# Altium schematic symbol library zbook-rf-shields-LORA-P1.SchLib: 29 symbols
Pins are listed as number, name and electrical type; pins without a type are passive.

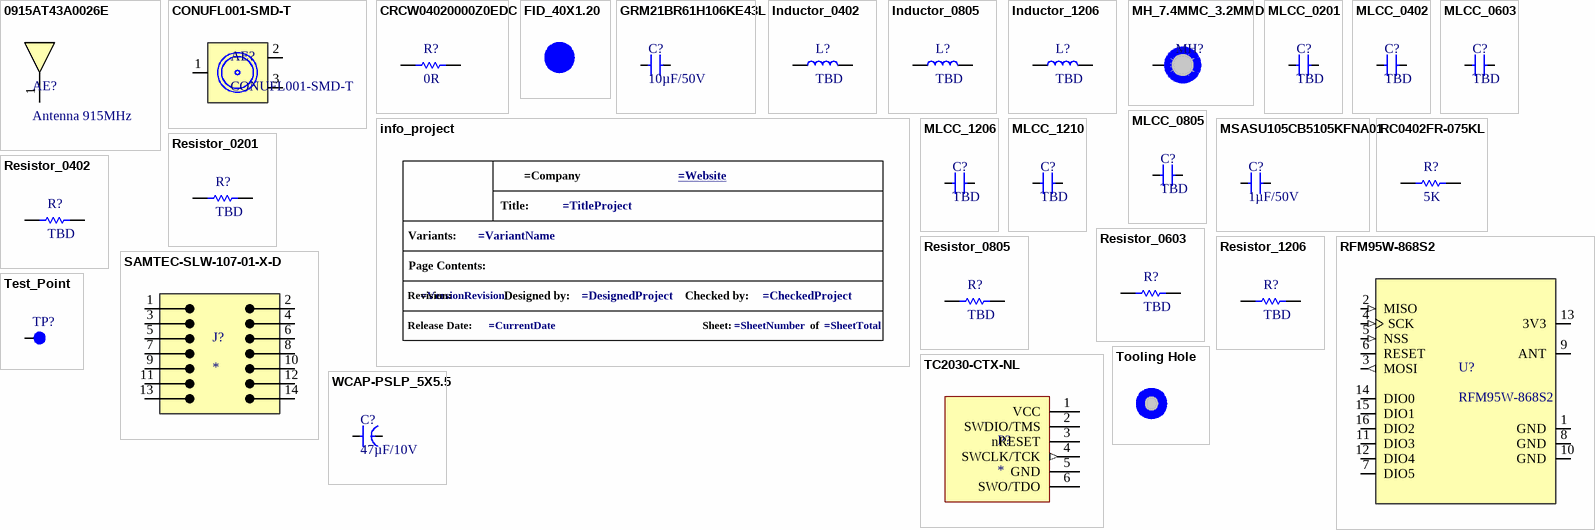
[diagram p0: symbols 0915AT43A0026E to WCAP-PSLP_5X5.5]

## 0915AT43A0026E
designator AE?, comment Antenna 915MHz
RF ANT - 915MHZ  CHIP SOLDER SMD; Manufacturer: Johanson Manufactoring; Manufacturer Part Number: 0915AT43A0026E; Resistance: 50R; .SCHChecked: Alex Batista; Supplier 1: Digi-Key; Stock 1: 21212; Pricing 1: 1=0.84000, 10=0.75200, 25=0.71400, 100=0.58650, 250=0.54824, 500=0.48450 (USD); RoHS: Yes; ComponentLink1URL: http://www.johansontechnology.com/images/stories/ip/rf-antennas/Antenna_0915AT43A0026_v2.pdf?src-supplier=Farnell; ComponentLink1Description: http://www.johansontechnology.com/images/stories/ip/rf-antennas/Antenna_0915AT43A0026_v2.pdf?src-supplier=Farnell; ComponentLink2URL: http://www.farnell.com/datasheets/1928701.pdf?src-supplier=Newark; ComponentLink2Description: http://www.farnell.com/datasheets/1928701.pdf?src-supplier=Newark; ComponentLink3URL: http://www.farnell.com/datasheets/1318299.pdf?src-supplier=Newark; ComponentLink3Description: http://www.farnell.com/datasheets/1318299.pdf?src-supplier=Newark; Supplier Part Number 1: 712-1535-1-ND; .PCBChecked: Alex Batista
footprint 0915AT43A0026
pins: 1 Feeding Point

## CONUFL001-SMD-T
designator AE?
RF CONN - U.FL/MHF1 Jack 50 Ohm PCB Surface Mount; Manufacturer 1: TE Connectivity; .Mounting: SMD; SnapEDA_Link: https://www.snapeda.com/parts/CONUFL001-SMD-T/TE+Connectivity/view-part/?ref=snap; Package: None; Value: *; Manufacturer Part Number 1: CONUFL001-SMD-T; Check_prices: https://www.snapeda.com/parts/CONUFL001-SMD-T/TE+Connectivity/view-part/?ref=eda; .PCBChecked: *; .SCHChecked: *
footprint LINX_CONUFL001-SMD-T
pins: 1, 2, 3 2

## CRCW04020000Z0EDC
designator R?, comment 0R
RES - 0R 1/16W 0402; Manufacturer: Vishay; Manufacturer Part Number: CRCW04020000Z0EDC; Power Rating: 62.5mW; Resistance: 18R; .SCHChecked: Alex Batista; Supplier 1: Mouser; Stock 1: 1494844; Pricing 1: 1=0.13, 10=0.044, 50=0.044, 100=0.025, 1000=0.018, 10000=0.005 (USD); Mount: Surface Mount; Case/Package: Molded; Contact Plating: Tin; Min Operating Temperature: -55°C; Max Operating Temperature: 155°C; Composition: Thick Film; Termination: Wraparound; Length: 1mm; Lead Free: Lead Free; Supplier Part Number 1: 71-CRCW04020000Z0EDC; .PCBChecked: Alex Batista
footprint R0402
pins: 1, 2

## FID_40X1.20
designator FID?  (value not drawn)  (no BOM)
Fiducials
footprint FID_40X1.20

## GRM21BR61H106KE43L
designator C?, comment 10µF/50V
MLCC - 10µF 50V X5R 0805 ±10%; Manufacturer 1: Murata; Manufacturer Part Number 1: GRM21BR61H106KE43L; Manufacturer Lifecycle Status: IN PRODUCTION; Dielectric Material: Ceramic; .Mounting: SMT; Supplier: Avnet; Supplier Part Number: GRM21BR61H106KE43L; RoHS: Compliant; Category: Ceramic Capacitors; Stock: 525000; Pricing: 3000=0,05122, 6000=0,0502, 12000=0,04948, 24000=0,04878, 48000=0,04738 (USD); Value: 10µF; Case/Package: 0805; Country of Origin: Japan, Mainland China, Philippines, Singapore, Thailand; Dielectric: X5R; Export Control Classification Number (ECCN) Code: EAR99; Height: 1.25mm; Harmonized Tariff Schedule (HTS) Code: 8532.24.00.20; Introduction Date: 2018-09-13; Length: 2mm; Lifecycle Status: Production; Material: Ceramic; Max Operating Temperature: 85°C; Min Operating Temperature: -55°C; Mounting Technology: Surface Mount; Number of Terminals: 2; REACH SVHC: Yes; Thickness: 1.25mm; Tolerance: 10%; Voltage Rating: 50V; Voltage Rating (DC): 50V; Width: 1.25mm; ComponentLink1URL: https://datasheet.octopart.com:443/GRM21BR61H106KE43L-Murata-datasheet-155345082.pdf?src-supplier=Newark; ComponentLink1Description: https://datasheet.octopart.com:443/GRM21BR61H106KE43L-Murata-datasheet-155345082.pdf?src-supplier=Newark; ComponentLink2URL: https://datasheet.octopart.com:443/GRM21BR61H106KE43L-Murata-datasheet-141278272.pdf?src-supplier=Geoflip; ComponentLink2Description: https://datasheet.octopart.com:443/GRM21BR61H106KE43L-Murata-datasheet-141278272.pdf?src-supplier=Geoflip; ComponentLink3URL: https://datasheet.octopart.com:443/GRM21BR61H106KE43L-Murata-datasheet-165579666.pdf?src-supplier=TME; ComponentLink3Description: https://datasheet.octopart.com:443/GRM21BR61H106KE43L-Murata-datasheet-165579666.pdf?src-supplier=TME; ComponentLink4URL: https://datasheet.octopart.com:443/GRM21BR61H106KE43L-Murata-datasheet-140707579.pdf?src-supplier=Ciiva; ComponentLink4Description: https://datasheet.octopart.com:443/GRM21BR61H106KE43L-Murata-datasheet-140707579.pdf?src-supplier=Ciiva; ComponentLink5URL: https://datasheet.octopart.com:443/GRM21BR61H106KE43L-Murata-datasheet-138744880.pdf?src-supplier=Ciiva; ComponentLink5Description: https://datasheet.octopart.com:443/GRM21BR61H106KE43L-Murata-datasheet-138744880.pdf?src-supplier=Ciiva; ComponentLink6URL: https://datasheet.octopart.com/GRM21BR61H106KE43L-Murata-datasheet-12515295.pdf; ComponentLink6Description: https://datasheet.octopart.com/GRM21BR61H106KE43L-Murata-datasheet-12515295.pdf; ComponentLink7URL: https://datasheet.octopart.com/GRM21BR61H106KE43L-Murata-datasheet-12510076.pdf; ComponentLink7Description: https://datasheet.octopart.com/GRM21BR61H106KE43L-Murata-datasheet-12510076.pdf; ComponentLink8URL: https://datasheet.octopart.com/GRM21BR61H106KE43L-Murata-datasheet-11978611.pdf; ComponentLink8Description: https://datasheet.octopart.com/GRM21BR61H106KE43L-Murata-datasheet-11978611.pdf; ComponentLink9URL: https://datasheet.octopart.com/GRM21BR61H106KE43L-Murata-datasheet-10025737.pdf; ComponentLink9Description: https://datasheet.octopart.com/GRM21BR61H106KE43L-Murata-datasheet-10025737.pdf; ComponentLink10URL: https://datasheet.octopart.com/GRM21BR61H106KE43L-Murata-datasheet-8819587.pdf; ComponentLink10Description: https://datasheet.octopart.com/GRM21BR61H106KE43L-Murata-datasheet-8819587.pdf; ComponentLink11URL: http://sigma.octopart.com:80/reach_statement/Murata-company-16.pdf?src-supplier=Compliance+Statements; ComponentLink11Description: http://sigma.octopart.com:80/reach_statement/Murata-company-16.pdf?src-supplier=Compliance+Statements; .SCHChecked: *; .PCBChecked: *
footprint C0805
pins: 1, 2

## Inductor_0402
designator L?, comment TBD
INDUCTOR - TBD 0402
footprint L0402
pins: 1, 2

## Inductor_0805
designator L?, comment TBD
INDUCTOR - TBD 0805
footprint L0805
pins: 1, 2

## Inductor_1206
designator L?, comment TBD
INDUCTOR - TBD 1206
footprint L1206 (Chip Capacitor, 2-Leads, Body 3.20x1.60mm, IPC Medium Density)
pins: 1, 2

## info_project
designator GPH?  (value not drawn)  (graphical)
GRAPHICAL - Info Project
text: Title:; Variants:; Page Contents:; Revision:; Designed by:; Checked by:; Release Date:; Sheet:; of

## MH_7.4MMC_3.2MMD
designator MH?  (value not drawn)  (no BOM)
Mounting Hole 7.4mm Diameter 3.2mm Drill
footprint MH_7.4MMC_3.2MMD
pins: 1

## MLCC_0201
designator C?, comment TBD
MLCC - TBD 0201
footprint C0201
pins: 1, 2

## MLCC_0402
designator C?, comment TBD
MLCC - TBD 0402
footprint C0402
pins: 1, 2

## MLCC_0603
designator C?, comment TBD
MLCC - TBD 0603
footprint C0603
pins: 1, 2

## MLCC_0805
designator C?, comment TBD
MLCC - TBD 0805
footprint C0805
pins: 1, 2

## MLCC_1206
designator C?, comment TBD
MLCC - TBD 1206
footprint C1206 (Chip Capacitor, 2-Leads, Body 3.20x1.60mm, IPC Medium Density)
pins: 1, 2

## MLCC_1210
designator C?, comment TBD
MLCC - TBD 1210
footprint C1210
pins: 1, 2

## MSASU105CB5105KFNA01
designator C?, comment 1µF/50V
MLCC - 1µF 50V X5R 0402 ±10%; Manufacturer 1: Taiyo Yuden; Manufacturer Part Number 1: MSASU105CB5105KFNA01; .Mounting: SMT; .SCHChecked: Lucas Vieira; Supplier: Digikey; Supplier Part Number: 587-MSASU105CB5105KFNA01CT-ND; RoHS: Yes; Category: Ceramic Capacitors; Stock: 15208; Pricing: 1=0,28, 10=0,184, 50=0,1288, 100=0,1041, 500=0,07732, 1000=0,06766, 2500=0,06444, 5000=0,05961 (USD); Reach SVHC Compliant: Yes; RoHS Compliant: Yes; .PCBChecked: Lucas Vieira; Manufacturer 2: Murata Electronics; Manufacturer Part Number 2: GRM155R61H105KE05D; Manufacturer 3: Murata Electronics; Manufacturer Part Number 3: GRM155R61E105KA12D; Supplier 1: Digikey; Supplier Part Number 1: 587-MSASU105CB5105KFNA01CT-ND
footprint C0402
pins: 1, 2

## RC0402FR-075KL
designator R?, comment 5K
RES - 5K 1/16W 0402 ±1%; Manufacturer 1: Yageo Group; Manufacturer Part Number 1: RC0402FR-075KL; Max Power Dissipation: 63mW; Power Rating: 62.5mW; Value: 5kΩ; Temperature Coefficient: 100ppm/°C; Voltage Rating: 50V; .Mounting: SMD; Supplier: Newark; Supplier Part Number: RC0402FR-075KL; RoHS: Compliant; Category: Chip SMD Resistors; Stock: 9852; Pricing: 1=0,101, 25=0,012, 100=0,009, 250=0,008, 500=0,007, 1000=0,006, 2500=0,005, 5000=0,004 (USD); Case/Package: 0402; China RoHS: Non-Compliant; Composition: Thick Film; Country of Origin: Mainland China, Taiwan; Export Control Classification Number (ECCN) Code: EAR99; Features: Moisture Resistant; Height: 350µm; Harmonized Tariff Schedule (HTS) Code: 8533.21.00.30; Introduction Date: 2011-11-17; Length: 1mm; Lifecycle Status: Production; Max Operating Temperature: 155°C; Min Operating Temperature: -55°C; Mounting Technology: Surface Mount; Number of Terminals: 2; Number of Terminations: 2; REACH SVHC: Yes; Schedule B: 8533210045, 8533210045|8533210045|8533210045|8533210045|8533210045; Tolerance: 1%; Width: 500µm; Working Voltage: 50V; ComponentLink1URL: https://datasheet.octopart.com:443/RC0402FR-075KL-Yageo-datasheet-127823281.pdf?src-supplier=Upverter; ComponentLink1Description: https://datasheet.octopart.com:443/RC0402FR-075KL-Yageo-datasheet-127823281.pdf?src-supplier=Upverter; ComponentLink2URL: https://datasheet.octopart.com:443/RC0402FR-075KL-Yageo-datasheet-137700087.pdf?src-supplier=IHS; ComponentLink2Description: https://datasheet.octopart.com:443/RC0402FR-075KL-Yageo-datasheet-137700087.pdf?src-supplier=IHS; ComponentLink3URL: https://datasheet.octopart.com:443/RC0402FR-075KL-Yageo-Group-datasheet-176638170.pdf?src-supplier=Future+Electronics; ComponentLink3Description: https://datasheet.octopart.com:443/RC0402FR-075KL-Yageo-Group-datasheet-176638170.pdf?src-supplier=Future+Electronics; ComponentLink4URL: https://datasheet.octopart.com:443/RC0402FR-075KL-Yageo-datasheet-164759695.pdf?src-supplier=Future+Electronics; ComponentLink4Description: https://datasheet.octopart.com:443/RC0402FR-075KL-Yageo-datasheet-164759695.pdf?src-supplier=Future+Electronics; ComponentLink5URL: https://datasheet.octopart.com:443/RC0402FR-075KL-Yageo-datasheet-175887523.pdf?src-supplier=Newark; ComponentLink5Description: https://datasheet.octopart.com:443/RC0402FR-075KL-Yageo-datasheet-175887523.pdf?src-supplier=Newark; ComponentLink6URL: https://datasheet.octopart.com/RC0402FR-075KL-Yageo-datasheet-73766026.pdf; ComponentLink6Description: https://datasheet.octopart.com/RC0402FR-075KL-Yageo-datasheet-73766026.pdf; ComponentLink7URL: http://sigma.octopart.com:80/conflict_mineral_statement/Yageo-company-3.pdf?src-supplier=Compliance+Statements; ComponentLink7Description: http://sigma.octopart.com:80/conflict_mineral_statement/Yageo-company-3.pdf?src-supplier=Compliance+Statements; ComponentLink8URL: http://sigma.octopart.com:80/rohs_statement/Yageo-company-2.pdf?src-supplier=Compliance+Statements; ComponentLink8Description: http://sigma.octopart.com:80/rohs_statement/Yageo-company-2.pdf?src-supplier=Compliance+Statements; .SCHChecked: *; .PCBChecked: *
footprint R0402
pins: 1, 2

## Resistor_0201
designator R?, comment TBD
Resistor - TBD 0201
footprint R0201
pins: 1, 2

## Resistor_0402
designator R?, comment TBD
Resistor - TBD 0402
footprint R0402
pins: 1, 2

## Resistor_0603
designator R?, comment TBD
Resistor - TBD 0603
footprint R0603
pins: 1, 2

## Resistor_0805
designator R?, comment TBD
Resistor - TBD 0805
footprint R0805
pins: 1, 2

## Resistor_1206
designator R?, comment TBD
Resistor - TBD 1206
footprint R1206
pins: 1, 2

## RFM95W-868S2
designator U?
MODULE - General ISM < 1GHz LoRaâ„¢ Transceiver Module 868MHz Antenna Not Included Surface Mount; Manufacturer 1: RF; .Mounting: SMD; Package: Non Standard RF Solutions; Price: None; Check_prices: https://www.snapeda.com/parts/RFM95W-868S2/RF+Solutions/view-part/?ref=eda; Value: *; SnapEDA_Link: https://www.snapeda.com/parts/RFM95W-868S2/RF+Solutions/view-part/?ref=snap; Manufacturer Part Number 1: RFM95W-868S2; Availability: In Stock; Purchase-URL: https://pricing.snapeda.com/search?q=RFM95W-868S2&ref=eda; .PCBChecked: *; .SCHChecked: *
footprint XCVR_RFM95W-868S2
pins: 1 GND (power), 2 MISO (in), 3 MOSI (out), 4 SCK (in), 5 NSS (in), 6 RESET (io), 7 DIO5 (io), 8 GND (power), 9 ANT, 10 GND (power), 11 DIO3 (io), 12 DIO4 (io), 13 3V3 (power), 14 DIO0 (io), 15 DIO1 (io), 16 DIO2 (io)

## SAMTEC-SLW-107-01-X-D
designator J?
HEADER - 14 Position Receptacle Connector 0.100" (2.54mm) Through Hole Gold; Manufacturer 1: Samtec Inc.; Manufacturer Part Number 1: SAMTEC-SLW-107-01-X-D; .Mounting: PTH; Package: None; Price: None; Value: *; Availability: Unavailable; .PCBChecked: *; .SCHChecked: *
footprint SAMTEC-SLW-107-01-X-D
pins: 1, 2, 3, 4, 5, 6, 7, 8, 9, 10, 11, 12, 13, 14

## TC2030-CTX-NL
designator P?  (no BOM)
6 pin Tag-Connect; .SCHChecked: Alex Batista; .PCBChecked: Alex Batista
footprint TC2030-CTX-NL
pins: 1 VCC, 2 SWDIO/TMS, 3 nRESET, 4 SWCLK/TCK (out), 5 GND, 6 SWO/TDO

## Test_Point
designator TP?, comment TestPoint  (value not drawn)  (no BOM)
MECH - Test Points
footprint Test Point
pins: 1

## Tooling Hole
designator TH?  (value not drawn)  (no BOM)
MECH - Tooling Holes
footprint Tooling Hole

## WCAP-PSLP_5X5.5
designator C?, comment 47µF/10V
CAP - 47UF 20% 10V; Manufacturer 1: Würth Elektronik; Manufacturer Part Number 1: 875105242006; .Mounting: SMD; Package: None; Price: None; Value: *; Availability: Unavailable; .PCBChecked: *; .SCHChecked: *
footprint WCAP-PSLP_5X5.5(DXL)
pins: 1, 2